# Altium schematic symbol library SR06X000 PTL.SchLib: 1 symbol
Pins are listed as number, name and electrical type; pins without a type are passive.

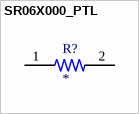
[diagram p0: symbol SR06X000_PTL]

## SR06X000_PTL
designator R?
MP: SR06X000 PTL; MF: {'manufacturer': u'Walsin Technologies'}; Price: None; Package: None; Value: *; Availability: Unavailable
footprint RESC1608X55
pins: 1, 2